# Altium footprint library PcbLib.PcbLib: 34 footprints (part 3 of 3)
Each footprint in its own frame and in the unit in brackets; x right, y up, seen from the top. Pads: shape width x height; smd on the part's side, far side on the other; paste and mask are expansions set on the pad; w line width, h text height; cw(c..) or ccw(c..) is an arc to the next point about the centre after c.
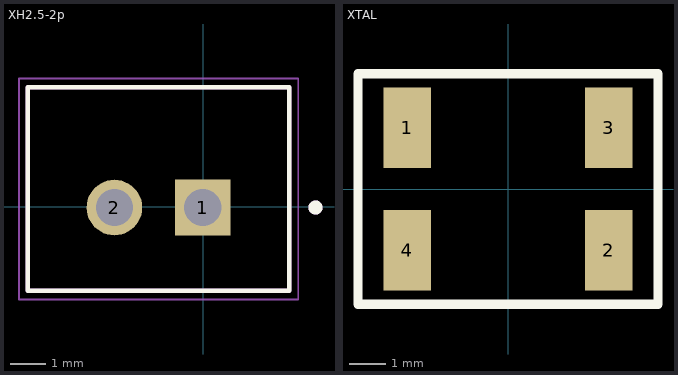
[diagram p2: the footprints below, top view; thin cyan lines are the x and y axes]

## XH2.5-2p [mm]
pads (2):
  rect 1.575x1.575 / inner round 1.575 / far side rect 1.575x1.575 hole 1.05: 1(-0.02,-0.017)
  round 1.575 hole 1.05: 2(-2.52,-0.017)
Top Overlay:
  circle w0.2: c3.17,-0.017 r0.1
  lines w0.127: -4.97,-2.367 2.43,-2.367 2.43,3.383 -4.97,3.383 -4.97,-2.367
Mechanical 13:
  circle w0.2: c3.17,-0.017 r0.1
  lines w0.127: -4.97,-2.367 2.43,-2.367 2.43,3.383 -4.97,3.383 -4.97,-2.367
Mechanical 15:
  lines w0.05: -5.22,-2.617 -5.22,3.633 2.68,3.633 2.68,-2.617 -5.22,-2.617
3D body "step_temp.STEP": height 7, standoff -3.4, extent -4.97,-2.367 2.43,3.383

## XTAL [mm]
pads (4):
  rect 1.3x2.2 smd: 1(-2.75,1.675) 2(2.75,-1.675) 3(2.75,1.675) 4(-2.75,-1.675)
Top Overlay:
  lines w0.254: -4.1,-3.15 4.1,-3.15 4.1,3.15 -4.1,3.15 -4.1,-3.15